# Altium footprint library 电源模块封装库.PcbLib: 10 footprints
Each footprint in its own frame and in the unit in brackets; x right, y up, seen from the top. Pads: shape width x height; smd on the part's side, far side on the other; paste and mask are expansions set on the pad; w line width, h text height; cw(c..) or ccw(c..) is an arc to the next point about the centre after c.
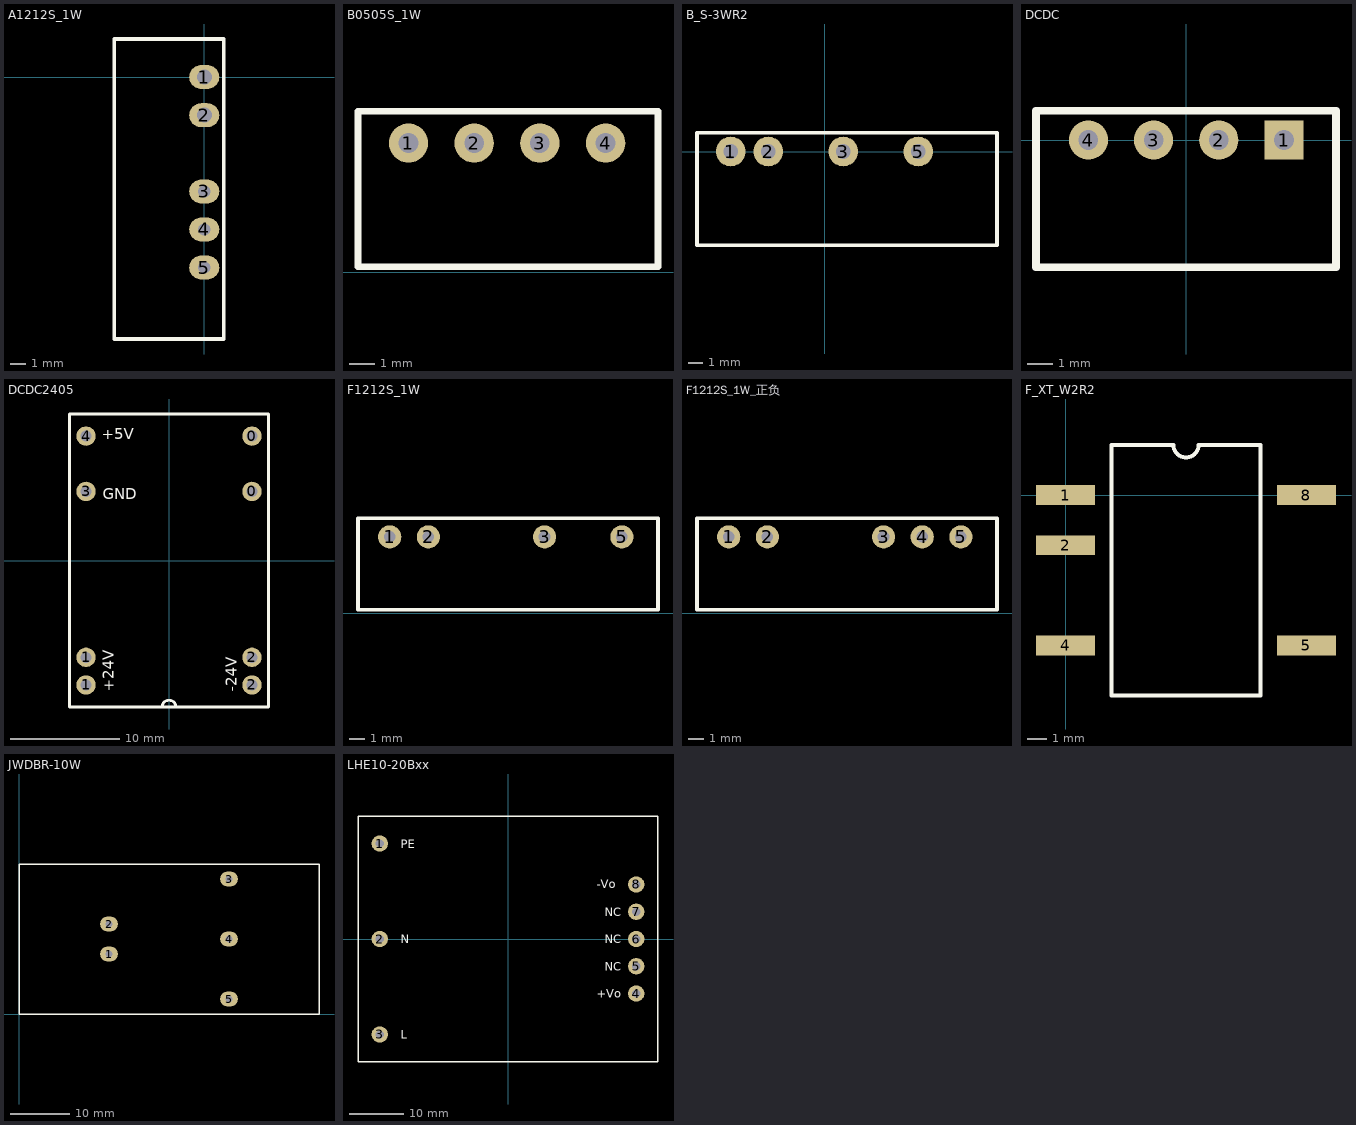
[diagram p0: the footprints below, top view; thin cyan lines are the x and y axes]

## A1212S_1W [mm]
height 10
pads (5):
  oval 2x1.6 hole 1: 1(0,0) 2(0,-2.54)
  oval 2x1.6 hole 0.8: 3(0,-7.62) 4(0,-10.16) 5(0,-12.7)
Top Overlay:
  lines w0.254: -6,-17.46 -6,2.54 1.3,2.54 1.3,-17.46 -6,-17.46
3D body: height 10, standoff -2.5, extent -5.842,-17.293 1.168,2.307

## B0505S_1W [mil]
height 393.7
pads (4):
  round 60 hole 30: 1(196.85,196.85) 2(296.85,196.85) 3(396.85,196.85) 4(496.85,196.85)
Top Overlay:
  lines w10: 120,8.78 576.69,8.78 576.69,245 120,245 120,8.78

## B_S-3WR2 [mm]
pads (4):
  round 2 hole 1: 1(-6.35,0) 2(-3.81,0) 3(1.27,0) 5(6.35,0)
Top Overlay:
  lines w0.254: -8.636,-6.35 11.684,-6.35 11.684,1.27 -8.636,1.27 -8.636,-6.35
3D body: height 10, standoff -2.5, extent -8.276,-5.994 11.324,1.016

## DCDC [mil] "MORNSUN 隔离电源"
pads (4):
  rect 60x60 hole 30: 1(150,0)
  round 60 hole 30: 2(50,0) 3(-50,0) 4(-150,0)
Top Overlay:
  lines w12: -230.31,-195.12 -230.31,44.88 229.69,44.88 229.69,-195.12 -230.31,-195.12
3D body: height 472.44, standoff 78.74, extent -224.8,-192.91 224.02,43.31
3D body: height 78.74, standoff -39.37, extent -169.53,-19.64 -130.31,19.65
3D body: height 78.74, standoff -39.37, extent -69.52,-19.64 -30.31,19.65
3D body: height 78.74, standoff -39.37, extent 30.48,-19.64 69.69,19.65
3D body: height 78.74, standoff -39.37, extent 130.48,-19.64 169.69,19.65

## DCDC2405 [mil]
height 78.35
pads (8):
  round 70 hole 40: 0(300,250) 0(300,450) 1(-300,-450) 1(-300,-350) 2(300,-450) 2(300,-350) 3(-300,250) 4(-300,450)
Top Overlay:
  lines w10: -25,-530 cw(c0,-530) 25,-530 ; -360,-530 360,-530 360,530 -360,530 -360,-530
  text "+24V" at -199.65,-474.61 h40
  text "-24V" at 245.23,-474.61 h40
  text "GND" at -239.02,222.24 h40
  text "+5V" at -242.96,438.78 h40
3D body: height 374.02, standoff -98.43, extent -394.61,-625.98 404.61,625.99

## F1212S_1W [mil]
height 393.7
pads (4):
  round 60 hole 30: 1(196.85,196.85) 2(296.85,196.85) 3(596.85,196.85) 5(796.85,196.85)
Top Overlay:
  lines w10: 115,8.78 115,245 ; 118.11,8.78 890,8.78 890,241.22 ; 118.11,245 889.76,245

## F1212S_1W_正负 [mil]
height 393.7
pads (5):
  round 60 hole 30: 1(196.85,196.85) 2(296.85,196.85) 3(596.85,196.85) 4(696.85,196.85) 5(796.85,196.85)
Top Overlay:
  lines w10: 115,8.78 115,245 ; 118.11,8.78 890,8.78 890,241.22 ; 118.11,245 889.76,245

## F_XT_W2R2 [mm] "贴片电源模块"
height 7.25
pads (5):
  rect 3x1 smd: 1(0,0) 2(0,-2.54) 4(0,-7.62) 5(12.2,-7.62) 8(12.2,0)
Top Overlay:
  lines w0.2: 2.335,-10.16 2.335,2.54 5.465,2.54 ccw(c6.1,2.54) 6.735,2.54 9.865,2.54 9.865,-10.16 2.335,-10.16

## JWDBR-10W [mm]
height 10.16
pads (5):
  oval 3x2.5 hole 1.2: 1(15.24,10.16) 2(15.24,15.24) 3(35.56,22.86) 4(35.56,12.7) 5(35.56,2.54)
Top Overlay:
  lines w0.254: 0,0 0,25.4 50.8,25.4 50.8,0 0,0

## LHE10-20Bxx [mm] "MORNSUN AC/DC"
height 21
pads (8):
  round 3 hole 1.5: 1(-23.5,17.5) 2(-23.5,0) 3(-23.5,-17.5) 4(23.5,-10) 5(23.5,-5) 6(23.5,0) 7(23.5,5) 8(23.5,10)
Top Overlay:
  lines w0.254: -27.5,-22.5 -27.5,22.5 27.5,22.5 27.5,-22.5 -27.5,-22.5
  text "PE" at -19.685,16.637 h1.52
  text "N" at -19.685,-0.762 h1.52
  text "L" at -19.685,-18.288 h1.52
  text "+Vo" at 16.256,-10.795 h1.52
  text "NC" at 17.78,-5.842 h1.52
  text "NC" at 17.78,-0.762 h1.52
  text "NC" at 17.78,4.191 h1.52
  text "-Vo" at 16.256,9.271 h1.52